# EAGLE library part S10B-PH-K-S(LF)(SN) (library S10B-PH-K-S_LF__SN_)
PH Series 6 Position 2 mm Pitch Through Hole Side Entry Shrouded Header Check availability <https://pricing.snapeda.com/parts/S6B-PH-K-S%28LF%29%28SN%29/JST%20Sales/view-part?ref=eda>
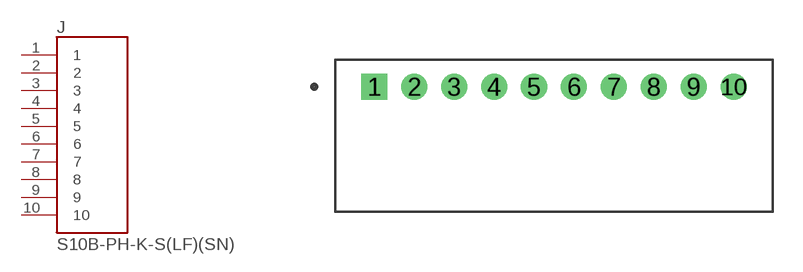
[diagram p0: symbol with the pads of JST_S10B-PH-K-S(LF)(SN); footprint JST_S10B-PH-K-S(LF)(SN)]

Designator prefix J

## S10B-PH-K-S(LF)(SN) (AVAILABILITY: In Stock; DESCRIPTION: Connector Header Through Hole, Right Angle 6 position 0.079 (2.00mm); MF: JST Sales; MP: S6B-PH-K-S(LF)(SN); PACKAGE: None; PRICE: None; PURCHASE-URL: https://pricing.snapeda.com/search/part/S6B-PH-K-S(LF)(SN)/?ref=eda)  [JST_S10B-PH-K-S(LF)(SN)]
1  1  pas
2  2  pas
3  3  pas
4  4  pas
5  5  pas
6  6  pas
7  7  pas
8  8  pas
9  9  pas
10  10  pas

## Footprint JST_S10B-PH-K-S(LF)(SN) (pad centres in mm)
drill 0.8 pad 1.2 square: 1 -9,0
drill 0.8 pad 1.2: 2 -7,0; 3 -5,0; 4 -3,0; 5 -1,0; 6 1,0; 7 3,0; 8 5,0; 9 7,0; 10 9,0